# Altium footprint library 1862068.PcbLib: 1 footprints
Each footprint in its own frame and in the unit in brackets; x right, y up, seen from the top. Pads: shape width x height; smd on the part's side, far side on the other; paste and mask are expansions set on the pad; w line width, h text height; cw(c..) or ccw(c..) is an arc to the next point about the centre after c.
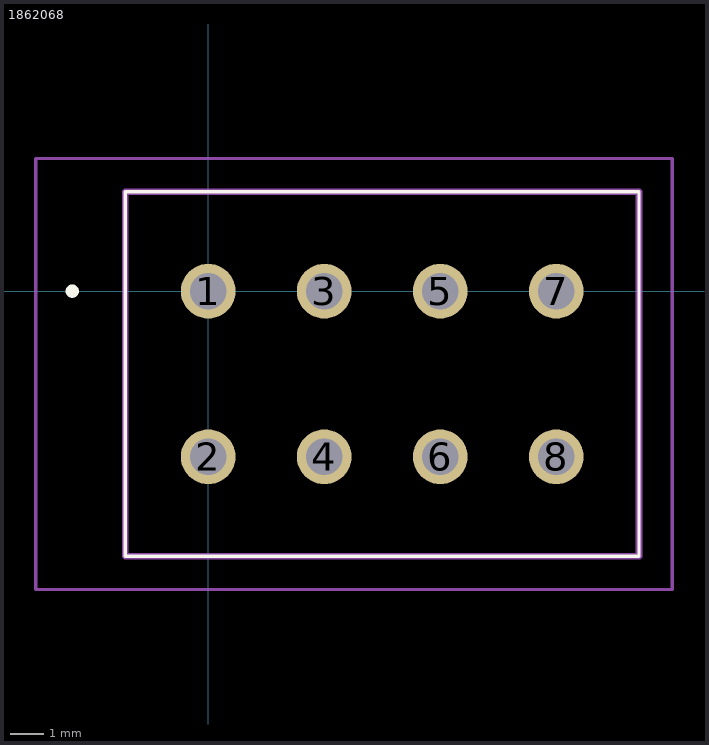
[diagram p0: the footprint, top view; thin cyan lines are the x and y axes]

## 1862068 [mm]
pads (8):
  round 1.65 hole 1.1: 1(0,0) 2(0,-5) 3(3.5,0) 4(3.5,-5) 5(7,0) 6(7,-5) 7(10.5,0) 8(10.5,-5)
Top Overlay:
  lines w0.1: -2.5,-8 13,-8 13,3 -2.5,3 -2.5,-8
  lines w0.2: -4.2,0 cw(c-4.1,0) -4,0 ; -4.2,0 -4.2,0 ; -4.2,0 ccw(c-4.1,0) -4,0 ; -4,0 -4,0
Mechanical 15:
  lines w0.2: -2.5,-8 13,-8 13,3 -2.5,3 -2.5,-8
Mechanical 20:
  lines w0.1: -5.2,-9 14,-9 14,4 -5.2,4 -5.2,-9